# Altium footprint library Synthiam-roundtrip2.PcbLib: 481 footprints (part 10 of 31)
Each footprint in its own frame and in the unit in brackets; x right, y up, seen from the top. Pads: shape width x height; smd on the part's side, far side on the other; paste and mask are expansions set on the pad; w line width, h text height; cw(c..) or ccw(c..) is an arc to the next point about the centre after c.
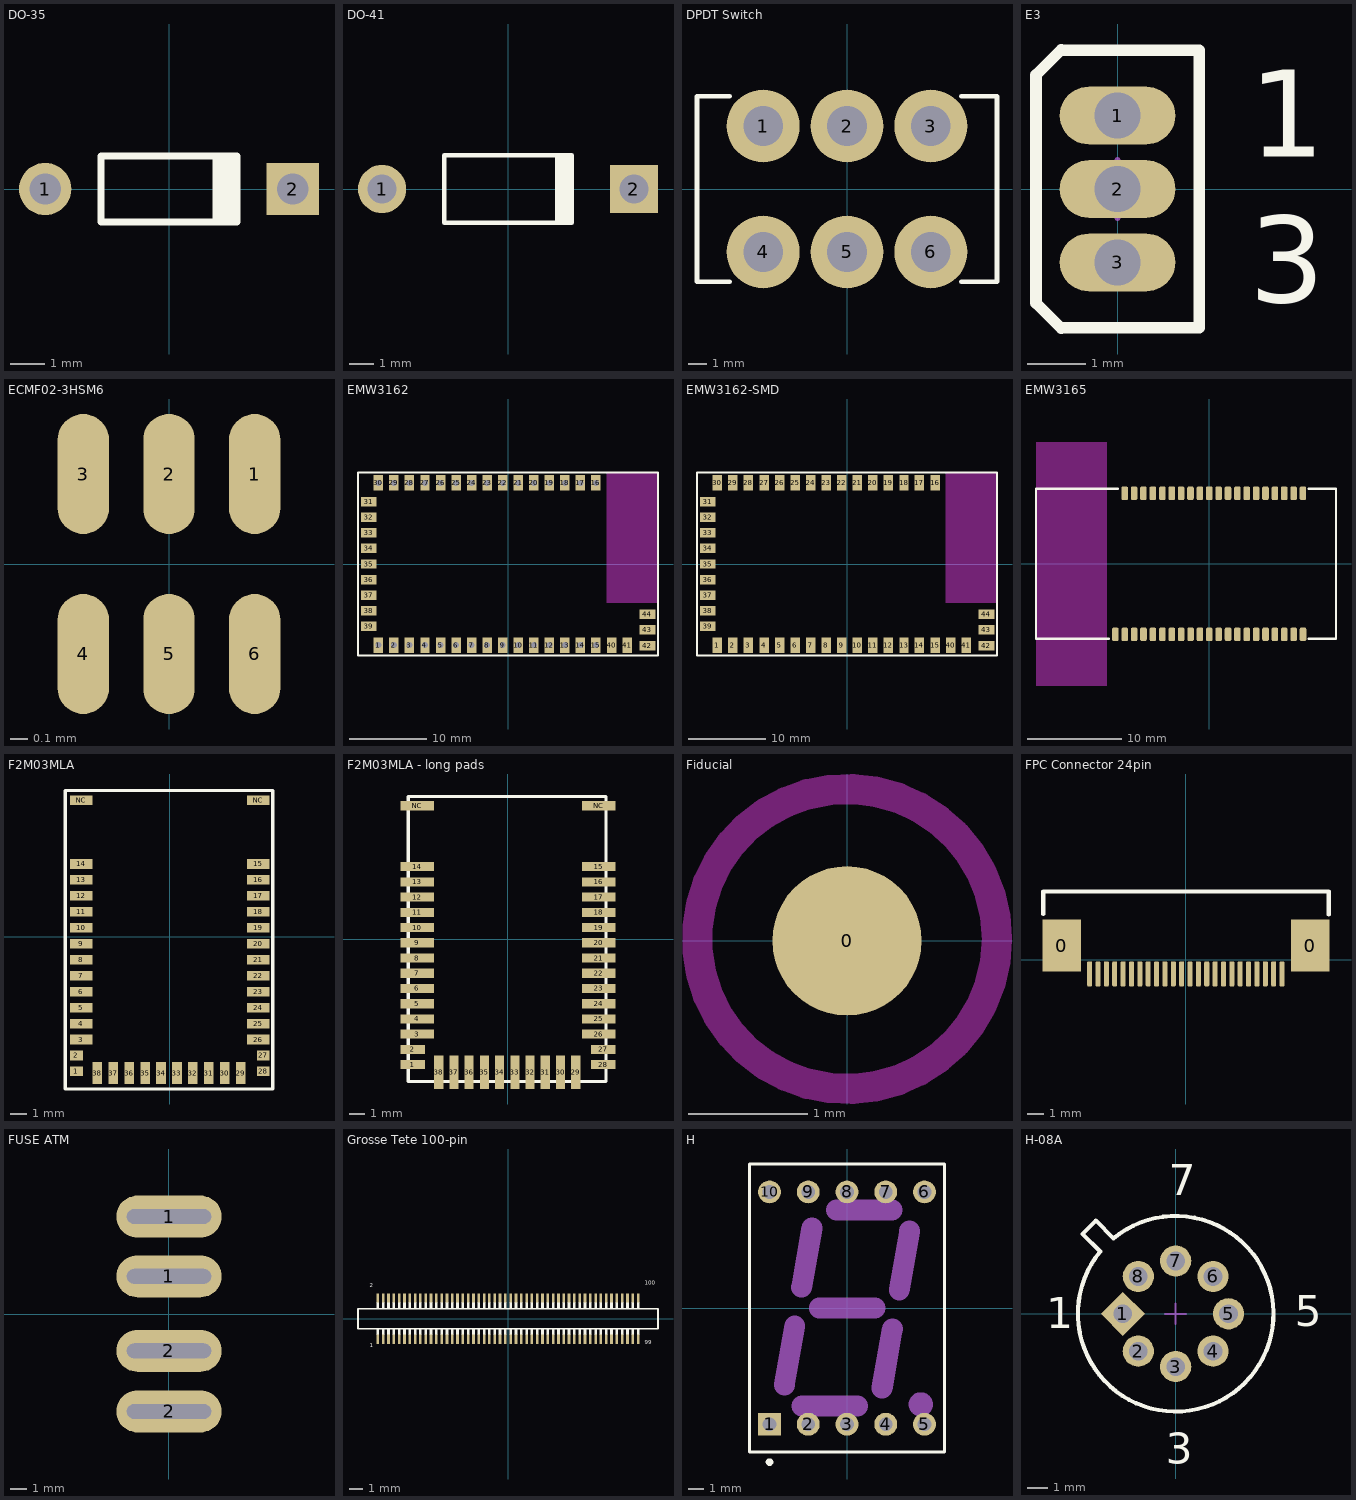
[diagram p9: the footprints below, top view; thin cyan lines are the x and y axes]

## DO-35 [mm] "Diode, Axial; Body 3.8 x 1.9 mm (LxDia. max), Lead Dia. 0.53 mm (max)"
height 1.9
pads (2):
  round 1.5 hole 0.9: 1(-3.55,0)
  rect 1.5x1.5 hole 0.9: 2(3.55,0)
Top Overlay:
  rectangle: 1.25,-0.95 2.05,0.95
  lines w0.2: 1.95,-0.95 -1.95,-0.95 -1.95,0.95 1.95,0.95

## DO-41 [mm] "Diode, Axial; Body 5.2 x 2.7 mm (LxDia. max), Lead Dia. 0.86 mm (max)"
height 2.8
pads (2):
  round 2 hole 1.2: 1(-5.23,0)
  rect 2x2 hole 1.2: 2(5.23,0)
Top Overlay:
  rectangle: 1.95,-1.4 2.75,1.4
  lines w0.2: 2.65,-1.4 -2.65,-1.4 -2.65,1.4 2.65,1.4

## DPDT Switch [mm]
pads (6):
  round 4 hole 2.184: 1(-4.6,3.455) 2(0,3.455) 3(4.6,3.455) 4(-4.6,-3.455) 5(0,-3.455) 6(4.6,-3.455)
Top Overlay:
  lines w0.254: -6.435,-5.08 -8.23,-5.08 -8.23,5.08 -6.435,5.08 ; 6.27,-5.08 8.23,-5.08 8.23,5.08 6.27,5.08

## E3 [mm] "TO, Flat Index; 3 In-Line, Axial Leads; Body Dia. 4.6mm; Lead Dia. 0.5 mm (max)"
height 4.01
pads (3):
  oval 2x1 hole 0.8: 1(0,1.27) 2(0,0) 3(0,-1.27)
Top Overlay:
  lines w0.2: -0.97,-2.41 -1.41,-1.97 -1.41,1.97 -0.97,2.41 ; -0.97,-2.4 1.41,-2.4 1.41,2.4 -0.97,2.4
  text "1" at 2.275,0.555 h1.5
  text "3" at 2.275,-1.963 h1.5
Mechanical 15:
  lines w0.1: -0.5,0 0.5,0 ; 0,-0.5 0,0.5

## ECMF02-3HSM6 [mm]
pads (6):
  oval 0.3x0.7 smd mask+0.05: 1(0.5,0.525) 2(0,0.525) 3(-0.5,0.525) 4(-0.5,-0.525) 5(0,-0.525) 6(0.5,-0.525)

## EMW3162 [mm]
pads (44):
  rect 1.22x2.03 / inner round 1.524 / far side round 1.524 hole 0.762: 1(-16.69,-10.415) 2(-14.69,-10.415) 3(-12.69,-10.415) 4(-10.69,-10.415) 5(-8.69,-10.415) 6(-6.69,-10.415) 7(-4.69,-10.415) 8(-2.69,-10.415) 9(-0.69,-10.415) 10(1.31,-10.415) 11(3.31,-10.415) 12(5.31,-10.415) 13(7.31,-10.415) 14(9.31,-10.415) 15(11.31,-10.415) 16(11.31,10.465) 17(9.31,10.465) 18(7.31,10.465) 19(5.31,10.465) 20(3.31,10.465) 21(1.31,10.465) 22(-0.69,10.465) 23(-2.69,10.465) 24(-4.69,10.465) 25(-6.69,10.465) 26(-8.69,10.465) 27(-10.69,10.465) 28(-12.69,10.465) 29(-14.69,10.465) 30(-16.69,10.465)
  rect 2.03x1.22 smd: 31(-17.935,8.025) 32(-17.935,6.025) 33(-17.935,4.025) 34(-17.935,2.025) 35(-17.935,0.025) 36(-17.935,-1.975) 37(-17.935,-3.975) 38(-17.935,-5.975) 39(-17.935,-7.975) 42(17.935,-10.465) 43(17.935,-8.465) 44(17.935,-6.465)
  rect 1.22x2.03 smd: 40(13.31,-10.415) 41(15.31,-10.415)
Top Overlay:
  lines w0.254: -19.31,-11.775 -19.31,11.825 19.29,11.825 19.29,-11.775 -19.31,-11.775
Keep-Out Layer:
  rectangle: 12.69,-4.975 19.29,11.825

## EMW3162-SMD [mm]
pads (44):
  rect 1.22x2.03 smd: 1(-16.685,-10.415) 2(-14.695,-10.415) 3(-12.685,-10.415) 4(-10.685,-10.415) 5(-8.685,-10.415) 6(-6.695,-10.415) 7(-4.685,-10.415) 8(-2.685,-10.415) 9(-0.675,-10.415) 10(1.315,-10.415) 11(3.325,-10.415) 12(5.325,-10.415) 13(7.325,-10.415) 14(9.315,-10.415) 15(11.325,-10.415) 16(11.325,10.465) 17(9.315,10.465) 18(7.325,10.465) 19(5.325,10.465) 20(3.325,10.465) 21(1.315,10.465) 22(-0.675,10.465) 23(-2.685,10.465) 24(-4.685,10.465) 25(-6.695,10.465) 26(-8.685,10.465) 27(-10.685,10.465) 28(-12.685,10.465) 29(-14.695,10.465) 30(-16.685,10.465) 40(13.31,-10.415) 41(15.31,-10.415)
  rect 2.03x1.22 smd: 31(-17.935,8.025) 32(-17.935,6.025) 33(-17.935,4.025) 34(-17.935,2.025) 35(-17.935,0.025) 36(-17.935,-1.975) 37(-17.935,-3.975) 38(-17.935,-5.975) 39(-17.935,-7.975) 42(17.935,-10.465) 43(17.935,-8.465) 44(17.935,-6.465)
Top Overlay:
  lines w0.254: -19.31,-11.775 19.29,-11.775 19.29,11.825 -19.31,11.825 -19.31,-11.775
Keep-Out Layer:
  rectangle: 12.69,-4.975 19.29,11.825

## EMW3165 [mm]
pads (41):
  rrect50% 0.7x1.45 smd: 1(10.005,7.525) 2(9.005,7.525) 3(8.005,7.525) 4(7.005,7.525) 5(6.005,7.525) 6(5.005,7.525) 7(4.005,7.525) 8(3.005,7.525) 9(2.005,7.525) 10(1.005,7.525) 11(0.005,7.525) 12(-0.995,7.525) 13(-1.995,7.525) 14(-2.995,7.525) 15(-3.995,7.525) 16(-4.995,7.525) 17(-6.015,7.525) 18(-7.015,7.525) 19(-8.015,7.525) 20(-9.015,7.525) 21(-9.01,-7.525) 22(-8.01,-7.525) 23(-7.01,-7.525) 24(-6.01,-7.525) 25(-4.99,-7.525) 26(-3.99,-7.525) 27(-2.99,-7.525) 28(-1.99,-7.525) 29(-0.99,-7.525) 30(0.01,-7.525) 31(1.01,-7.525) 32(2.01,-7.525) 33(3.01,-7.525) 34(4.01,-7.525) 35(5.01,-7.525) 36(6.01,-7.525) 37(7.01,-7.525) 38(8.01,-7.525) 39(9.01,-7.525) 40(10.01,-7.525) 41(-10.01,-7.525)
Top Overlay:
  lines w0.254: -10.721,-8 -18.471,-8 -18.471,8 -9.721,8 ; 10.629,-8 13.529,-8 13.529,8 10.629,8
Keep-Out Layer:
  region: -10.875,12.98 -18.475,12.98 -18.475,-13.02 -10.875,-13.02

## F2M03MLA [mm]
pads (40):
  rect 0.8x0.6 smd: 1(-5.85,-8.45) 2(-5.85,-7.45) 27(5.85,-7.45) 28(5.85,-8.45)
  rect 1.4x0.6 smd: 3(-5.55,-6.45) 4(-5.55,-5.45) 5(-5.55,-4.45) 6(-5.55,-3.45) 7(-5.55,-2.45) 8(-5.55,-1.45) 9(-5.55,-0.45) 10(-5.55,0.55) 11(-5.55,1.55) 12(-5.55,2.55) 13(-5.55,3.55) 14(-5.55,4.55) 15(5.55,4.55) 16(5.55,3.55) 17(5.55,2.55) 18(5.55,1.55) 19(5.55,0.55) 20(5.55,-0.45) 21(5.55,-1.45) 22(5.55,-2.45) 23(5.55,-3.45) 24(5.55,-4.45) 25(5.55,-5.45) 26(5.55,-6.45) NC(-5.55,8.55) NC(5.55,8.55)
  rect 0.6x1.4 smd: 29(4.45,-8.55) 30(3.45,-8.55) 31(2.45,-8.55) 32(1.45,-8.55) 33(0.45,-8.55) 34(-0.55,-8.55) 35(-1.55,-8.55) 36(-2.55,-8.55) 37(-3.55,-8.55) 38(-4.55,-8.55)
Top Overlay:
  lines w0.2: -6.55,-9.55 -6.55,9.15 6.45,9.15 6.45,-9.55 -6.55,-9.55

## F2M03MLA - long pads [mm]
pads (40):
  rect 1.6x0.6 smd: 1(-6.25,-8.25) 2(-6.25,-7.25) 27(6.25,-7.25) 28(6.25,-8.25)
  rect 2.2x0.6 smd: 3(-5.95,-6.25) 4(-5.95,-5.25) 5(-5.95,-4.25) 6(-5.95,-3.25) 7(-5.95,-2.25) 8(-5.95,-1.25) 9(-5.95,-0.25) 10(-5.95,0.75) 11(-5.95,1.75) 12(-5.95,2.75) 13(-5.95,3.75) 14(-5.95,4.75) 15(5.95,4.75) 16(5.95,3.75) 17(5.95,2.75) 18(5.95,1.75) 19(5.95,0.75) 20(5.95,-0.25) 21(5.95,-1.25) 22(5.95,-2.25) 23(5.95,-3.25) 24(5.95,-4.25) 25(5.95,-5.25) 26(5.95,-6.25) NC(-5.95,8.75) NC(5.95,8.75)
  rect 0.6x2.2 smd: 29(4.45,-8.75) 30(3.45,-8.75) 31(2.45,-8.75) 32(1.45,-8.75) 33(0.45,-8.75) 34(-0.55,-8.75) 35(-1.55,-8.75) 36(-2.55,-8.75) 37(-3.55,-8.75) 38(-4.55,-8.75)
Top Overlay:
  lines w0.2: -6.55,-9.35 -6.55,9.35 6.45,9.35 6.45,-9.35 -6.55,-9.35

## Fiducial [mm]
pads (1):
  round 1.25 smd paste-1 mask+0.75: 0(0,0)
Keep-Out Layer:
  circle w0.254: c0,0.015 r1.256

## FPC Connector 24pin [mm]
pads (26):
  rect 2.3x3.1 smd: 0(-7.417,0.846) 0(7.417,0.846)
  rrect50% 0.3x1.5 smd: 1(-5.76,-0.846) 2(-5.26,-0.845) 3(-4.76,-0.845) 4(-4.26,-0.846) 5(-3.76,-0.845) 6(-3.26,-0.845) 7(-2.76,-0.845) 8(-2.26,-0.845) 9(-1.76,-0.845) 10(-1.26,-0.845) 11(-0.76,-0.845) 12(-0.26,-0.845) 13(0.24,-0.845) 14(0.74,-0.845) 15(1.24,-0.845) 16(1.74,-0.845) 17(2.24,-0.845) 18(2.74,-0.845) 19(3.24,-0.845) 20(3.74,-0.845) 21(4.24,-0.845) 22(4.74,-0.845) 23(5.24,-0.845) 24(5.74,-0.845)
Top Overlay:
  lines w0.254: -8.53,2.736 -8.53,4.076 8.54,4.076 8.54,2.706

## FUSE ATM [mil]
pads (4):
  oval 250x100 hole 35 slot 200 at 0 deg: 1(0,89.5) 1(0,231.5) 2(0,-87.5) 2(0,-231.5)

## Grosse Tete 100-pin [mm]
pads (100):
  rect 0.2x0.7 smd: P$1(-9.8,-1.55) P$2(-9.8,1.55) P$3(-9.4,-1.55) P$4(-9.4,1.55) P$5(-9,-1.55) P$6(-9,1.55) P$7(-8.6,-1.55) P$8(-8.6,1.55) P$9(-8.2,-1.55) P$10(-8.2,1.55) P$11(-7.8,-1.55) P$12(-7.8,1.55) P$13(-7.4,-1.55) P$14(-7.4,1.55) P$15(-7,-1.55) P$16(-7,1.55) P$17(-6.6,-1.55) P$18(-6.6,1.55) P$19(-6.2,-1.55) P$20(-6.2,1.55) P$21(-5.8,-1.55) P$22(-5.8,1.55) P$23(-5.4,-1.55) P$24(-5.4,1.55) P$25(-5,-1.55) P$26(-5,1.55) P$27(-4.6,-1.55) P$28(-4.6,1.55) P$29(-4.2,-1.55) P$30(-4.2,1.55) P$31(-3.8,-1.55) P$32(-3.8,1.55) P$33(-3.4,-1.55) P$34(-3.4,1.55) P$35(-3,-1.55) P$36(-3,1.55) P$37(-2.6,-1.55) P$38(-2.6,1.55) P$39(-2.2,-1.55) P$40(-2.2,1.55) P$41(-1.8,-1.55) P$42(-1.8,1.55) P$43(-1.4,-1.55) P$44(-1.4,1.55) P$45(-1,-1.55) P$46(-1,1.55) P$47(-0.6,-1.55) P$48(-0.6,1.55) P$49(-0.2,-1.55) P$50(-0.2,1.55) P$51(0.2,-1.55) P$52(0.2,1.55) P$53(0.6,-1.55) P$54(0.6,1.55) P$55(1,-1.55) P$56(1,1.55) P$57(1.4,-1.55) P$58(1.4,1.55) P$59(1.8,-1.55) P$60(1.8,1.55) P$61(2.2,-1.55) P$62(2.2,1.55) P$63(2.6,-1.55) P$64(2.6,1.55) P$65(3,-1.55) P$66(3,1.55) P$67(3.4,-1.55) P$68(3.4,1.55) P$69(3.8,-1.55) P$70(3.8,1.55) P$71(4.2,-1.55) P$72(4.2,1.55) P$73(4.6,-1.55) P$74(4.6,1.55) P$75(5,-1.55) P$76(5,1.55) P$77(5.4,-1.55) P$78(5.4,1.55) P$79(5.8,-1.55) P$80(5.8,1.55) P$81(6.2,-1.55) P$82(6.2,1.55) P$83(6.6,-1.55) P$84(6.6,1.55) P$85(7,-1.55) P$86(7,1.55) P$87(7.4,-1.55) P$88(7.4,1.55) P$89(7.8,-1.55) P$90(7.8,1.55) P$91(8.2,-1.55) P$92(8.2,1.55) P$93(8.6,-1.55) P$94(8.6,1.55) P$95(9,-1.55) P$96(9,1.55) P$97(9.4,-1.55) P$98(9.4,1.55) P$99(9.8,-1.55) P$100(9.8,1.55)
Top Overlay:
  rectangle: 9.7,0.82 9.9,1.26
  rectangle: 9.3,0.82 9.5,1.26
  rectangle: 8.9,0.82 9.1,1.26
  rectangle: 8.5,0.82 8.7,1.26
  rectangle: 8.1,0.82 8.3,1.26
  rectangle: 7.7,0.82 7.9,1.26
  rectangle: 7.3,0.82 7.5,1.26
  rectangle: 6.9,0.82 7.1,1.26
  rectangle: 6.5,0.82 6.7,1.26
  rectangle: 6.1,0.82 6.3,1.26
  rectangle: 5.7,0.82 5.9,1.26
  rectangle: 5.3,0.82 5.5,1.26
  rectangle: 4.9,0.82 5.1,1.26
  rectangle: 4.5,0.82 4.7,1.26
  rectangle: 4.1,0.82 4.3,1.26
  rectangle: 3.7,0.82 3.9,1.26
  rectangle: 3.3,0.82 3.5,1.26
  rectangle: 2.9,0.82 3.1,1.26
  rectangle: 2.5,0.82 2.7,1.26
  rectangle: 2.1,0.82 2.3,1.26
  rectangle: 1.7,0.82 1.9,1.26
  rectangle: 1.3,0.82 1.5,1.26
  rectangle: 0.9,0.82 1.1,1.26
  rectangle: 0.5,0.82 0.7,1.26
  rectangle: 0.1,0.82 0.3,1.26
  rectangle: -0.3,0.82 -0.1,1.26
  rectangle: -0.7,0.82 -0.5,1.26
  rectangle: -1.1,0.82 -0.9,1.26
  rectangle: -1.5,0.82 -1.3,1.26
  rectangle: -1.9,0.82 -1.7,1.26
  rectangle: -2.3,0.82 -2.1,1.26
  rectangle: -2.7,0.82 -2.5,1.26
  rectangle: -3.1,0.82 -2.9,1.26
  rectangle: -3.5,0.82 -3.3,1.26
  rectangle: -3.9,0.82 -3.7,1.26
  rectangle: -4.3,0.82 -4.1,1.26
  rectangle: -4.7,0.82 -4.5,1.26
  rectangle: -5.1,0.82 -4.9,1.26
  rectangle: -5.5,0.82 -5.3,1.26
  rectangle: -5.9,0.82 -5.7,1.26
  rectangle: -6.3,0.82 -6.1,1.26
  rectangle: -6.7,0.82 -6.5,1.26
  rectangle: -7.1,0.82 -6.9,1.26
  rectangle: -7.5,0.82 -7.3,1.26
  rectangle: -7.9,0.82 -7.7,1.26
  rectangle: -8.3,0.82 -8.1,1.26
  rectangle: -8.7,0.82 -8.5,1.26
  rectangle: -9.1,0.82 -8.9,1.26
  rectangle: -9.5,0.82 -9.3,1.26
  rectangle: -9.9,0.82 -9.7,1.26
  rectangle: 9.7,-1.25 9.9,-0.81
  rectangle: 9.3,-1.25 9.5,-0.81
  rectangle: 8.9,-1.25 9.1,-0.81
  rectangle: 8.5,-1.25 8.7,-0.81
  rectangle: 8.1,-1.25 8.3,-0.81
  rectangle: 7.7,-1.25 7.9,-0.81
  rectangle: 7.3,-1.25 7.5,-0.81
  rectangle: 6.9,-1.25 7.1,-0.81
  rectangle: 6.5,-1.25 6.7,-0.81
  rectangle: 6.1,-1.25 6.3,-0.81
  rectangle: 5.7,-1.25 5.9,-0.81
  rectangle: 5.3,-1.25 5.5,-0.81
  rectangle: 4.9,-1.25 5.1,-0.81
  rectangle: 4.5,-1.25 4.7,-0.81
  rectangle: 4.1,-1.25 4.3,-0.81
  rectangle: 3.7,-1.25 3.9,-0.81
  rectangle: 3.3,-1.25 3.5,-0.81
  rectangle: 2.9,-1.25 3.1,-0.81
  rectangle: 2.5,-1.25 2.7,-0.81
  rectangle: 2.1,-1.25 2.3,-0.81
  rectangle: 1.7,-1.25 1.9,-0.81
  rectangle: 1.3,-1.25 1.5,-0.81
  rectangle: 0.9,-1.25 1.1,-0.81
  rectangle: 0.5,-1.25 0.7,-0.81
  rectangle: 0.1,-1.25 0.3,-0.81
  rectangle: -0.3,-1.25 -0.1,-0.81
  rectangle: -0.7,-1.25 -0.5,-0.81
  rectangle: -1.1,-1.25 -0.9,-0.81
  rectangle: -1.5,-1.25 -1.3,-0.81
  rectangle: -1.9,-1.25 -1.7,-0.81
  rectangle: -2.3,-1.25 -2.1,-0.81
  rectangle: -2.7,-1.25 -2.5,-0.81
  rectangle: -3.1,-1.25 -2.9,-0.81
  rectangle: -3.5,-1.25 -3.3,-0.81
  rectangle: -3.9,-1.25 -3.7,-0.81
  rectangle: -4.3,-1.25 -4.1,-0.81
  rectangle: -4.7,-1.25 -4.5,-0.81
  rectangle: -5.1,-1.25 -4.9,-0.81
  rectangle: -5.5,-1.25 -5.3,-0.81
  rectangle: -5.9,-1.25 -5.7,-0.81
  rectangle: -6.3,-1.25 -6.1,-0.81
  rectangle: -6.7,-1.25 -6.5,-0.81
  rectangle: -7.1,-1.25 -6.9,-0.81
  rectangle: -7.5,-1.25 -7.3,-0.81
  rectangle: -7.9,-1.25 -7.7,-0.81
  rectangle: -8.3,-1.25 -8.1,-0.81
  rectangle: -8.7,-1.25 -8.5,-0.81
  rectangle: -9.1,-1.25 -8.9,-0.81
  rectangle: -9.5,-1.25 -9.3,-0.81
  rectangle: -9.9,-1.25 -9.7,-0.81
  lines w0.127: -11.3,-0.75 -11.3,0.75 11.3,0.75 11.3,-0.75 -11.3,-0.75
  text "100" at 10.3,2.45 h0.5
  text "99" at 10.3,-2.05 h0.5
  text "2" at -10.4,2.25 h0.5
  text "1" at -10.4,-2.25 h0.5

## H [mm] "LED, 7-Segment Display, 14.2 mm, RHD; 10 Leads; Row Space 15.24 mm; Pitch 2.54 mm"
height 8.25
pads (10):
  rect 1.5x1.5 hole 0.9: 1(-5.08,-7.62)
  round 1.5 hole 0.9: 2(-2.54,-7.62) 3(0,-7.62) 4(2.54,-7.62) 5(5.08,-7.62) 6(5.08,7.62) 7(2.54,7.62) 8(0,7.62) 9(-2.54,7.62) 10(-5.08,7.62)
Top Overlay:
  circle w0.25: c-5.08,-10.1 r0.125
  lines w0.2: -6.4,-9.45 -6.4,9.45 6.4,9.45 6.4,-9.45 -6.4,-9.45
Mechanical 1:
  circle w1: c4.842,-6.316 r0.296
  lines w1.37: -4.108,-5.054 -3.425,-1.17 ; -2.974,1.368 -2.293,5.255 ; -2.958,-6.429 0.692,-6.426 ; -1.821,0 1.828,0 ; -0.689,6.425 2.96,6.425 ; 2.295,-5.256 2.98,-1.371 ; 3.427,1.169 4.11,5.058
Mechanical 13:
  lines w0.1: -6.4,-9.45 6.4,-9.45 6.4,9.45 -6.4,9.45 -6.4,-9.45
3D body: height 8.25, standoff 0, extent -6.4,-9.45 6.4,9.45

## H-08A [mm] "Can; 8 Leads; Pin Circle Dia. 5.08 mm; Lead Dia. 0.53 mm (max)"
height 4.7
pads (8):
  rect 1.5x1.5 hole 0.9 rot 45: 1(-2.54,0)
  round 1.5 hole 0.9: 2(-1.796,-1.796) 3(0,-2.54) 4(1.796,-1.796) 5(2.54,0) 6(1.796,1.796) 7(0,2.54) 8(-1.796,1.796)
Top Overlay:
  lines w0.2: -4.475,3.838 -3.838,4.475 -2.99,3.626 cw(c0,0) -3.626,2.99 -4.475,3.838
  text "1" at -6.22,-0.696 h1.5
  text "3" at -0.469,-7.22 h1.5
  text "5" at 5.712,-0.589 h1.5
  text "7" at -0.332,5.7 h1.5
Mechanical 15:
  lines w0.1: -0.5,0 0.5,0 ; 0,-0.5 0,0.5